# EAGLE library part LED_7-SEGMENT-1DIGIT (library bschulz)
7-Segment Display, single digit Digikey: 157136S12701 (Red, Common Cathode, 0.52" Digit) <https://www.digikey.com/en/products/detail/w%C3%BCrth-elektronik/157136S12701/14640741> SparkFun: 7-Segment Display - LED (Red, Common Anode, 0.6" Digit) <https://www.sparkfun.com/products/8546> (COM-08546)
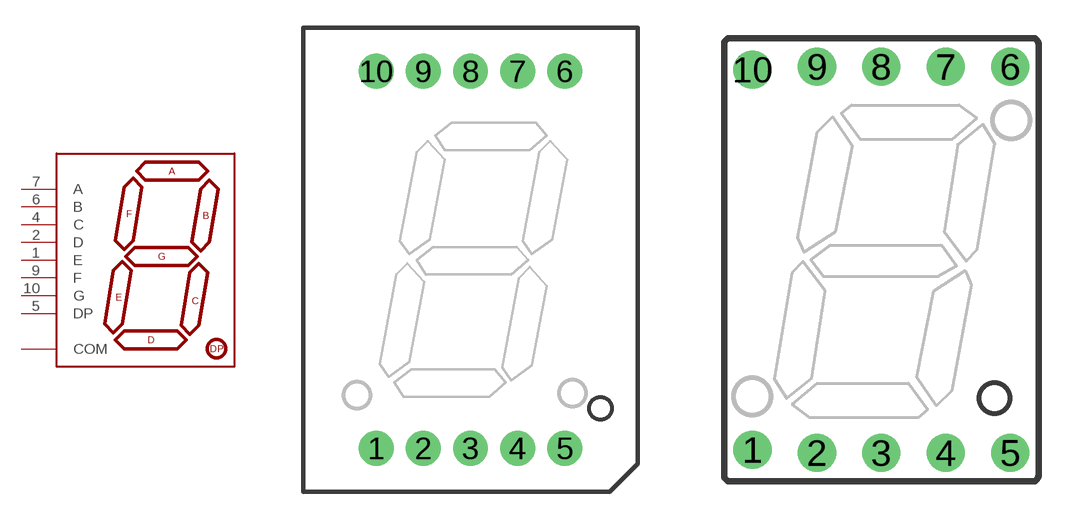
[diagram p185: symbol with the pads of 7-SEGMENT-1"PTH; footprints 7-SEGMENT-1"PTH, 7-SEGMENT-0.6"DIP]

Designator prefix DS

## LED_7-SEGMENT-1DIGIT-0.6" (PROD_ID: COM-08546; VALUE: YSD-160AR4B-8)  [7-SEGMENT-1"PTH]
1  E
2  D
3  COM  pwr
4  C
5  DP
6  B
7  A
8  COM  pwr
9  F
10  G

## LED_7-SEGMENT-1DIGIT-0.52", LED_7-SEGMENT-1DIGIT_CC-RED-0.52" (DIGIKEY: 732-157136S12701-ND; MF: Wurth; MPN: 157136S12701)  [7-SEGMENT-0.6"DIP]
Pads as for 7-SEGMENT-1"PTH

## Footprint 7-SEGMENT-1"PTH (pad centres in mm)
7 Segment display Storefront SKU#: COM-08546
drill 1 pad 1.88: 1 -5.08,-10.16; 2 -2.54,-10.16; 3 0,-10.16; 4 2.54,-10.16; 5 5.08,-10.16; 6 5.08,10.16; 7 2.54,10.16; 8 0,10.16; 9 -2.54,10.16; 10 -5.08,10.16

## Footprint 7-SEGMENT-0.6"DIP (pad centres in mm)
7 Segment display Datasheet <https://www.we-online.com/catalog/datasheet/157136S12701.pdf>
drill 1: 1 -5.08,-7.5; 2 -2.54,-7.62; 3 0,-7.62; 4 2.54,-7.62; 5 5.08,-7.62; 6 5.08,7.62; 7 2.54,7.62; 8 0,7.62; 9 -2.54,7.62; 10 -5.08,7.5